# Altium schematic symbol library IC_Other.SchLib: 3 symbols
Pins are listed as number, name and electrical type; pins without a type are passive.

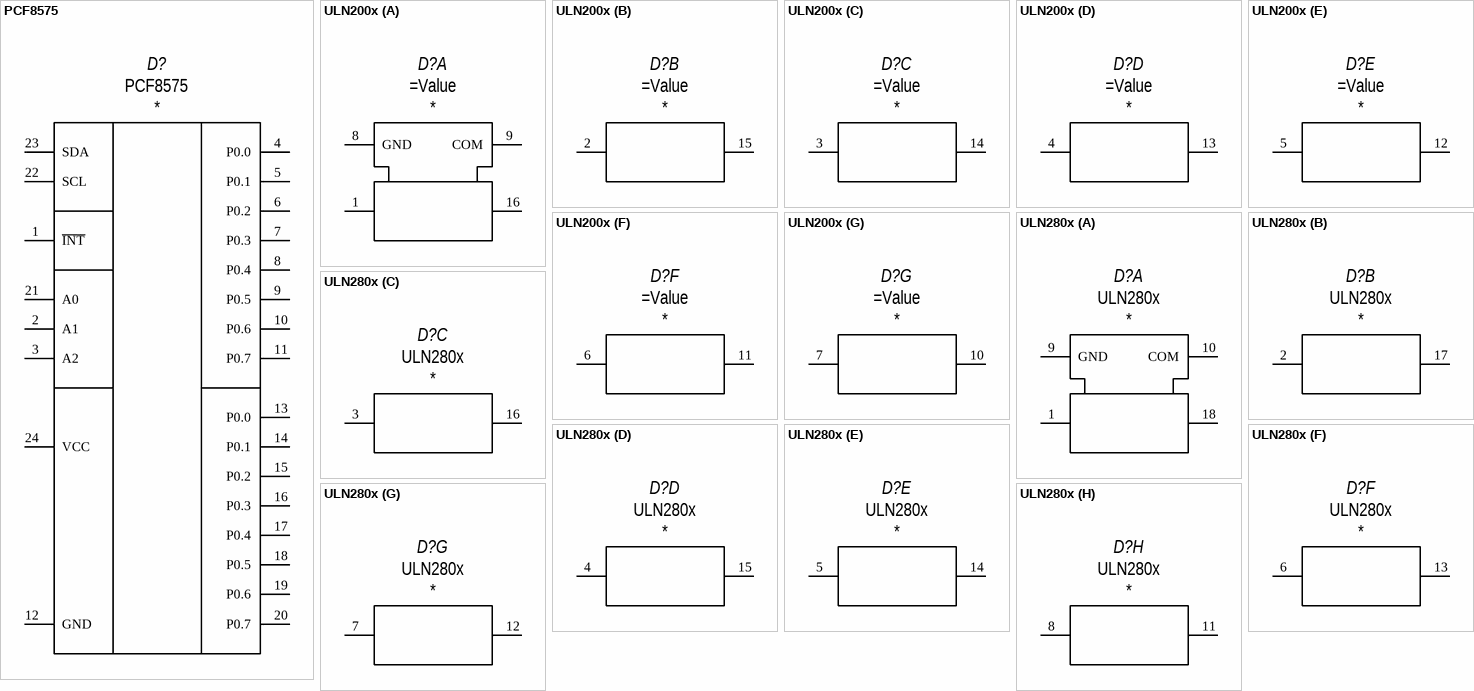
[diagram p0: symbols PCF8575 to ULN280x]

## PCF8575
designator D?  value PCF8575
Manufacturer: *; HelpURL: http://www.ti.com/lit/ds/symlink/pcf8575.pdf
footprint TSSOP24 (24 Lead TSSOP Package, Clamp 0.65mm, Body 7.8x4.5mm)
pins: 1 ~{INT}, 2 A1, 3 A2, 4 P0.0, 5 P0.1, 6 P0.2, 7 P0.3, 8 P0.4, 9 P0.5, 10 P0.6, 11 P0.7, 12 GND, 13 P0.0, 14 P0.1, 15 P0.2, 16 P0.3, 17 P0.4, 18 P0.5, 19 P0.6, 20 P0.7, 21 A0, 22 SCL, 23 SDA, 24 VCC

## ULN200x
designator D?
Manufacturer: *; HelpURL: *; Value: =Value
footprint SOIC-16 (16 Lead SOIC Package, Clamp 1.27mm, Body 9.8x3.8mm)
footprint DIP-16
part A pins: 1 1B, 8 GND, 9 COM, 16 1C (oc)
part B pins: 2 2B, 15 2C (oc)
part C pins: 3 3B, 14 3C (oc)
part D pins: 4 4B, 13 4C (oc)
part E pins: 5 5B, 12 5C (oc)
part F pins: 6 6B, 11 6C (oc)
part G pins: 7 7B, 10 7C (oc)

## ULN280x
designator D?  value ULN280x
Manufacturer: *; HelpURL: https://static.chipdip.ru/lib/223/DOC000223810.pdf
footprint DIP-18
footprint P-SOP18-1.27 (18 Lead SOP Package, Clamp 1.27mm, Body 11.4x7.4mm)
part A pins: 1 1B, 9 GND, 10 COM, 18 1C (oc)
part B pins: 2 2B, 17 2C (oc)
part C pins: 3 3B, 16 3C (oc)
part D pins: 4 4B, 15 4C (oc)
part E pins: 5 5B, 14 5C (oc)
part F pins: 6 6B, 13 6C (oc)
part G pins: 7 7B, 12 7C (oc)
part H pins: 8 7B, 11 7C (oc)